# Altium footprint library DAQ_Replacement.PcbLib: 13 footprints
Each footprint in its own frame and in the unit in brackets; x right, y up, seen from the top. Pads: shape width x height; smd on the part's side, far side on the other; paste and mask are expansions set on the pad; w line width, h text height; cw(c..) or ccw(c..) is an arc to the next point about the centre after c.
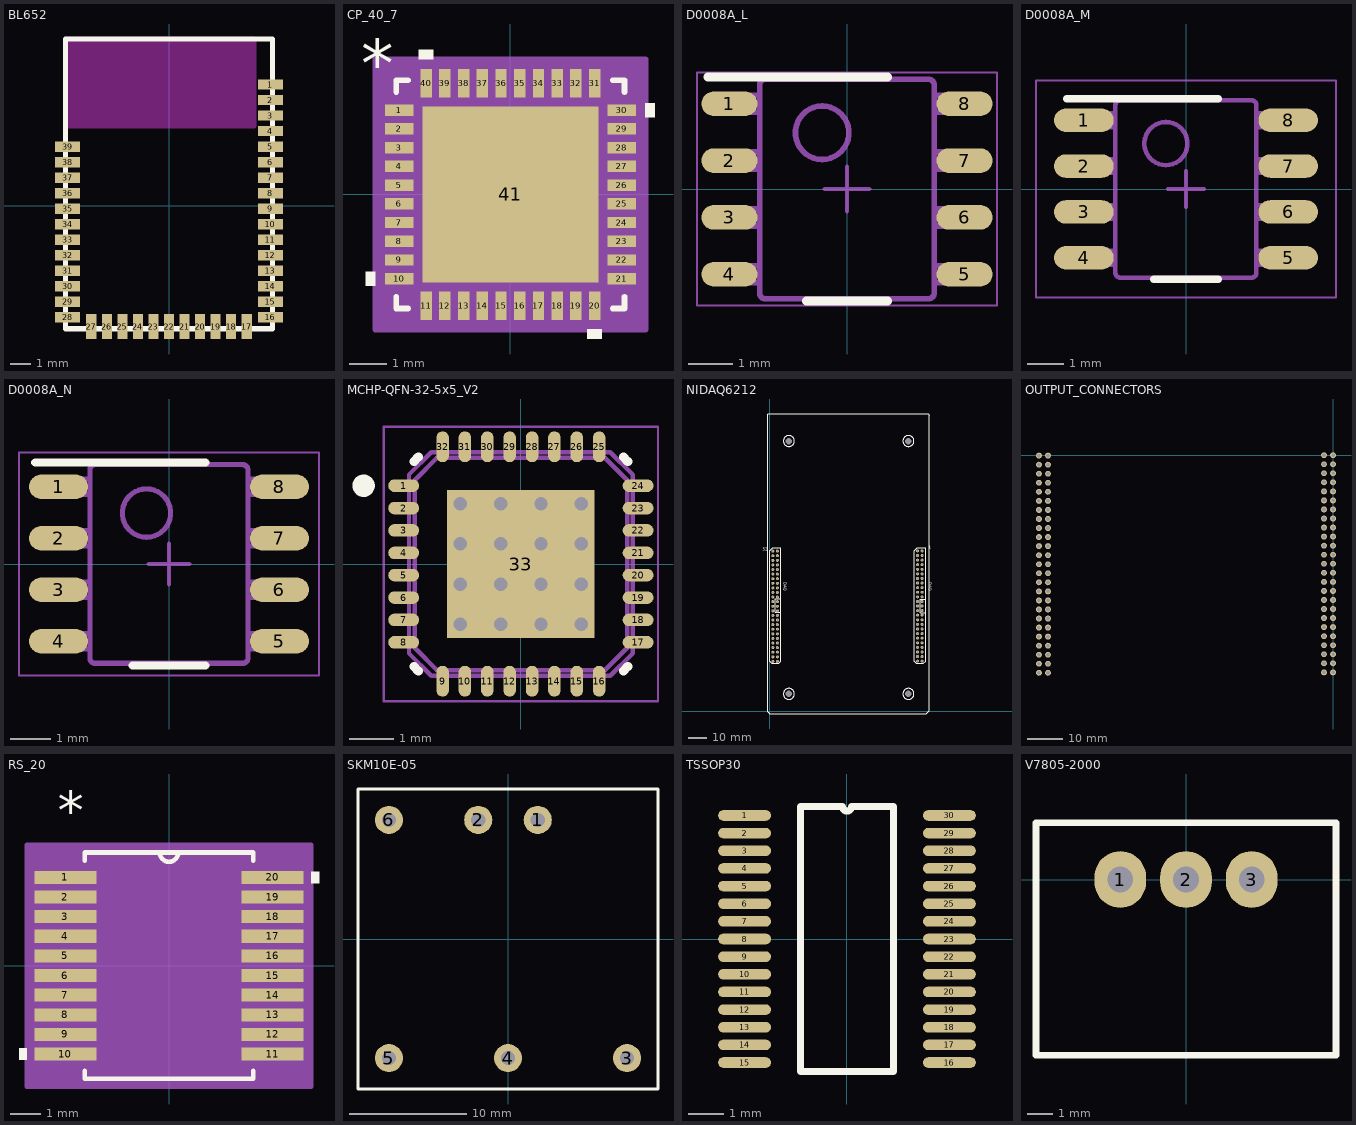
[diagram p0: the footprints below, top view; thin cyan lines are the x and y axes]

## BL652 [mm]
pads (39):
  rect 1.2x0.5 smd: 1(4.9,5.85) 2(4.9,5.1) 3(4.9,4.35) 4(4.9,3.6) 5(4.9,2.85) 6(4.9,2.1) 7(4.9,1.35) 8(4.9,0.6) 9(4.9,-0.15) 10(4.9,-0.9) 11(4.9,-1.65) 12(4.9,-2.4) 13(4.9,-3.15) 14(4.9,-3.9) 15(4.9,-4.65) 16(4.9,-5.4) 28(-4.9,-5.4) 29(-4.9,-4.65) 30(-4.9,-3.9) 31(-4.9,-3.15) 32(-4.9,-2.4) 33(-4.9,-1.65) 34(-4.9,-0.9) 35(-4.9,-0.15) 36(-4.9,0.6) 37(-4.9,1.35) 38(-4.9,2.1) 39(-4.9,2.85)
  rect 0.5x1.2 smd: 17(3.75,-5.85) 18(3,-5.85) 19(2.25,-5.85) 20(1.5,-5.85) 21(0.75,-5.85) 22(0,-5.85) 23(-0.75,-5.85) 24(-1.5,-5.85) 25(-2.25,-5.85) 26(-3,-5.85) 27(-3.75,-5.85)
Top Overlay:
  lines w0.254: -5,-5.95 5,-5.95 5,8.05 -5,8.05 -5,-5.95
Keep-Out Layer:
  pour cut-out: -5,3.85 -5,8.05 4.1,8.05 4.1,3.85
  lines w0.254: -5,3.85 -5,8.05 4.1,8.05 4.1,3.85 -5,3.85
3D body: height 2.1, standoff 0, extent -5,-5.95 5,8.05

## CP_40_7 [mil]
pads (41):
  rect 30x12 smd mask+5: 1(-117,88.58) 2(-117,68.9) 3(-117,49.21) 4(-117,29.53) 5(-117,9.84) 6(-117,-9.84) 7(-117,-29.53) 8(-117,-49.21) 9(-117,-68.9) 10(-117,-88.58) 21(117,-88.58) 22(117,-68.9) 23(117,-49.21) 24(117,-29.53) 25(117,-9.84) 26(117,9.84) 27(117,29.53) 28(117,49.21) 29(117,68.9) 30(117,88.58)
  rect 12x30 smd mask+5: 11(-88.58,-117) 12(-68.9,-117) 13(-49.21,-117) 14(-29.53,-117) 15(-9.84,-117) 16(9.84,-117) 17(29.53,-117) 18(49.21,-117) 19(68.9,-117) 20(88.58,-117) 31(88.58,117) 32(68.9,117) 33(49.21,117) 34(29.53,117) 35(9.84,117) 36(-9.84,117) 37(-29.53,117) 38(-49.21,117) 39(-68.9,117) 40(-88.58,117)
  rect 185x185 smd mask-92: 41(0,0)
Top Overlay:
  region: -142,-81.08 -152,-81.08 -152,-96.08 -142,-96.08
  region: 96.08,-142 81.08,-142 81.08,-152 96.08,-152
  region: 142,96.08 152,96.08 152,81.08 142,81.08
  region: -81.08,142 -96.08,142 -96.08,152 -81.08,152
  lines w6: -120,-107.68 -120,-120 -107.68,-120 ; -120,107.68 -120,120 -107.68,120 ; 107.68,-120 120,-120 120,-107.68 ; 107.68,120 120,120 120,107.68
  text "*" at -157,113.43 h50
Mechanical 13:
  lines w1: -120,70 -70,120 ; -120,-120 120,-120 120,120 -120,120 -120,-120 ; -120,-94.58 -120,-82.58 -120,-94.58 ; -120,-74.9 -120,-62.9 -120,-74.9 ; -120,-55.21 -120,-43.21 -120,-55.21 ; -120,-35.53 -120,-23.53 -120,-35.53 ; -120,-15.84 -120,-3.84 -120,-15.84 ; -120,3.84 -120,15.84 -120,3.84 ; -120,23.53 -120,35.53 -120,23.53 ; -120,43.21 -120,55.21 -120,43.21 ; -120,62.9 -120,74.9 -120,62.9 ; -120,82.58 -120,94.58 -120,82.58 ; -94.58,-120 -82.58,-120 -94.58,-120 ; -94.58,120 -82.58,120 -94.58,120 ; -74.9,-120 -62.9,-120 -74.9,-120 ; -74.9,120 -62.9,120 -74.9,120 ; -55.21,-120 -43.21,-120 -55.21,-120 ; -55.21,120 -43.21,120 -55.21,120 ; -35.53,-120 -23.53,-120 -35.53,-120 ; -35.53,120 -23.53,120 -35.53,120 ; -15.84,-120 -3.84,-120 -15.84,-120 ; -15.84,120 -3.84,120 -15.84,120 ; 3.84,-120 15.84,-120 3.84,-120 ; 3.84,120 15.84,120 3.84,120 ; 23.53,-120 35.53,-120 23.53,-120 ; 23.53,120 35.53,120 23.53,120 ; 43.21,-120 55.21,-120 43.21,-120 ; 43.21,120 55.21,120 43.21,120 ; 62.9,-120 74.9,-120 62.9,-120 ; 62.9,120 74.9,120 62.9,120 ; 82.58,-120 94.58,-120 82.58,-120 ; 82.58,120 94.58,120 82.58,120 ; 120,-94.58 120,-82.58 120,-94.58 ; 120,-74.9 120,-62.9 120,-74.9 ; 120,-55.21 120,-43.21 120,-55.21 ; 120,-35.53 120,-23.53 120,-35.53 ; 120,-15.84 120,-3.84 120,-15.84 ; 120,3.84 120,15.84 120,3.84 ; 120,23.53 120,35.53 120,23.53 ; 120,43.21 120,55.21 120,43.21 ; 120,62.9 120,74.9 120,62.9 ; 120,82.58 120,94.58 120,82.58
  text "*" at -157,113.43 h50
Mechanical 15:
  region: 142,-142 -142,-142 -142,142 142,142
  lines w6: -142,-142 -142,142 142,142 142,-142 -142,-142
3D body: height 10, standoff 0, extent 0,0 10,10
3D body: height 39.37, standoff 0, extent -118.11,-118.11 118.11,118.11

## D0008A_L [mm]
pads (8):
  oval 1.25x0.55 smd paste+0 mask+0.051: 1(-2.625,1.905) 2(-2.625,0.635) 3(-2.625,-0.635) 4(-2.625,-1.905) 5(2.625,-1.905) 6(2.625,-0.635) 7(2.625,0.635) 8(2.625,1.905)
Top Overlay:
  lines w0.2: -3.1,2.5 0.9,2.5 ; -0.9,-2.5 0.9,-2.5
Mechanical 13:
  lines w0.127: -2.375,-2.095 -2.375,-1.715 ; -2.375,-2.095 -2.589,-2.095 -3.002,-2.095 -3.002,-1.715 -2.589,-1.715 -2.375,-1.715 ; -2.375,-2.095 -1.995,-2.095 -1.952,-2.095 -1.952,-1.715 -1.995,-1.715 -2.375,-1.715 ; -2.375,-0.825 -2.375,-0.445 ; -2.375,-0.825 -2.589,-0.825 -3.002,-0.825 -3.002,-0.445 -2.589,-0.445 -2.375,-0.445 ; -2.375,-0.825 -1.995,-0.825 -1.952,-0.825 -1.952,-0.445 -1.995,-0.445 -2.375,-0.445 ; -2.375,0.445 -2.375,0.825 ; -2.375,0.445 -2.589,0.445 -3.002,0.445 -3.002,0.825 -2.589,0.825 -2.375,0.825 ; -2.375,0.445 -1.995,0.445 -1.952,0.445 -1.952,0.825 -1.995,0.825 -2.375,0.825 ; -2.375,1.715 -2.375,2.095 ; -2.375,1.715 -2.589,1.715 -3.002,1.715 -3.002,2.095 -2.589,2.095 -2.375,2.095 ; -2.375,1.715 -1.995,1.715 -1.952,1.715 -1.952,2.095 -1.995,2.095 -2.375,2.095 ; -0.332,-2.45 -0.182,-2.45 ; -0.332,-2.45 -0.182,-2.45 ; -0.332,-2.45 -1.825,-2.45 -1.826,-2.45 cw(c-1.825,-2.323) -1.952,-2.324 -1.952,-2.323 -1.952,2.323 -1.952,2.324 cw(c-1.825,2.323) -1.826,2.45 -1.825,2.45 -0.332,2.45 ; -0.332,2.45 -0.182,2.45 ; -0.332,2.45 -0.182,2.45 ; -0.182,-2.45 0.178,-2.45 ; -0.182,2.45 0.178,2.45 ; 0.178,-2.45 0.328,-2.45 ; 0.178,-2.45 0.328,-2.45 ; 0.178,2.45 0.328,2.45 ; 0.178,2.45 0.328,2.45 ; 0.328,-2.45 1.821,-2.45 1.822,-2.45 ccw(c1.821,-2.323) 1.948,-2.324 1.948,-2.323 1.948,2.323 1.948,2.324 ccw(c1.821,2.323) 1.822,2.45 1.821,2.45 0.328,2.45 ; 2.371,-2.095 2.371,-1.715 ; 2.371,-2.095 1.991,-2.095 1.948,-2.095 1.948,-1.715 1.991,-1.715 2.371,-1.715 ; 2.371,-2.095 2.585,-2.095 2.998,-2.095 2.998,-1.715 2.585,-1.715 2.371,-1.715 ; 2.371,-0.825 2.371,-0.445 ; 2.371,-0.825 1.991,-0.825 1.948,-0.825 1.948,-0.445 1.991,-0.445 2.371,-0.445 ; 2.371,-0.825 2.585,-0.825 2.998,-0.825 2.998,-0.445 2.585,-0.445 2.371,-0.445 ; 2.371,0.445 2.371,0.825 ; 2.371,0.445 1.991,0.445 1.948,0.445 1.948,0.825 1.991,0.825 2.371,0.825 ; 2.371,0.445 2.585,0.445 2.998,0.445 2.998,0.825 2.585,0.825 2.371,0.825 ; 2.371,1.715 2.371,2.095 ; 2.371,1.715 1.991,1.715 1.948,1.715 1.948,2.095 1.991,2.095 2.371,2.095 ; 2.371,1.715 2.585,1.715 2.998,1.715 2.998,2.095 2.585,2.095 2.371,2.095 ; -0.555,0.659 ccw(c-0.555,1.256) -0.555,1.853 ccw(c-0.555,1.256) -0.555,0.659
  text ".Designator" at -1.625,-0.625 h1.27
Mechanical 15:
  lines w0.05: -3.35,-2.6 3.35,-2.6 3.35,2.6 -3.35,2.6 -3.35,-2.6
  lines w0.1: -0.5,0 0.5,0 ; 0,-0.5 0,0.5
3D body: height 1.63, standoff 0, extent -3.011,-2.451 3.012,2.451
3D body: height 0.25, standoff 0, extent 0,0 0.254,0.254

## D0008A_M [mm]
pads (8):
  oval 1.65x0.65 smd paste+0 mask+0.051: 1(-2.825,1.905) 2(-2.825,0.635) 3(-2.825,-0.635) 4(-2.825,-1.905) 5(2.825,-1.905) 6(2.825,-0.635) 7(2.825,0.635) 8(2.825,1.905)
Top Overlay:
  lines w0.2: -3.3,2.5 0.9,2.5 ; -0.9,-2.5 0.9,-2.5
Mechanical 13:
  lines w0.127: -2.375,-2.095 -1.995,-2.095 -1.952,-2.095 -1.952,-1.715 -1.995,-1.715 -2.375,-1.715 ; -2.375,-2.095 -2.589,-2.095 -3.002,-2.095 -3.002,-1.715 -2.589,-1.715 -2.375,-1.715 ; -2.375,-2.095 -2.375,-1.715 ; -2.375,-0.825 -1.995,-0.825 -1.952,-0.825 -1.952,-0.445 -1.995,-0.445 -2.375,-0.445 ; -2.375,-0.825 -2.589,-0.825 -3.002,-0.825 -3.002,-0.445 -2.589,-0.445 -2.375,-0.445 ; -2.375,-0.825 -2.375,-0.445 ; -2.375,0.445 -1.995,0.445 -1.952,0.445 -1.952,0.825 -1.995,0.825 -2.375,0.825 ; -2.375,0.445 -2.589,0.445 -3.002,0.445 -3.002,0.825 -2.589,0.825 -2.375,0.825 ; -2.375,0.445 -2.375,0.825 ; -2.375,1.715 -1.995,1.715 -1.952,1.715 -1.952,2.095 -1.995,2.095 -2.375,2.095 ; -2.375,1.715 -2.589,1.715 -3.002,1.715 -3.002,2.095 -2.589,2.095 -2.375,2.095 ; -2.375,1.715 -2.375,2.095 ; -0.332,-2.45 -1.825,-2.45 -1.826,-2.45 cw(c-1.825,-2.323) -1.952,-2.324 -1.952,-2.323 -1.952,2.323 -1.952,2.324 cw(c-1.825,2.323) -1.826,2.45 -1.825,2.45 -0.332,2.45 ; -0.332,-2.45 -0.182,-2.45 ; -0.332,-2.45 -0.182,-2.45 ; -0.332,2.45 -0.182,2.45 ; -0.332,2.45 -0.182,2.45 ; -0.182,-2.45 0.178,-2.45 ; -0.182,2.45 0.178,2.45 ; 0.178,-2.45 0.328,-2.45 ; 0.178,-2.45 0.328,-2.45 ; 0.178,2.45 0.328,2.45 ; 0.178,2.45 0.328,2.45 ; 0.328,-2.45 1.821,-2.45 1.822,-2.45 ccw(c1.821,-2.323) 1.948,-2.324 1.948,-2.323 1.948,2.323 1.948,2.324 ccw(c1.821,2.323) 1.822,2.45 1.821,2.45 0.328,2.45 ; 2.371,-2.095 2.585,-2.095 2.998,-2.095 2.998,-1.715 2.585,-1.715 2.371,-1.715 ; 2.371,-2.095 1.991,-2.095 1.948,-2.095 1.948,-1.715 1.991,-1.715 2.371,-1.715 ; 2.371,-2.095 2.371,-1.715 ; 2.371,-0.825 2.585,-0.825 2.998,-0.825 2.998,-0.445 2.585,-0.445 2.371,-0.445 ; 2.371,-0.825 1.991,-0.825 1.948,-0.825 1.948,-0.445 1.991,-0.445 2.371,-0.445 ; 2.371,-0.825 2.371,-0.445 ; 2.371,0.445 2.585,0.445 2.998,0.445 2.998,0.825 2.585,0.825 2.371,0.825 ; 2.371,0.445 1.991,0.445 1.948,0.445 1.948,0.825 1.991,0.825 2.371,0.825 ; 2.371,0.445 2.371,0.825 ; 2.371,1.715 2.585,1.715 2.998,1.715 2.998,2.095 2.585,2.095 2.371,2.095 ; 2.371,1.715 1.991,1.715 1.948,1.715 1.948,2.095 1.991,2.095 2.371,2.095 ; 2.371,1.715 2.371,2.095 ; -0.555,0.659 cw(c-0.555,1.256) -0.555,1.853 cw(c-0.555,1.256) -0.555,0.659
  text ".Designator" at -1.625,-0.625 h1.27
Mechanical 15:
  lines w0.05: -4.15,-3 4.15,-3 4.15,3 -4.15,3 -4.15,-3
  lines w0.1: -0.5,0 0.5,0 ; 0,-0.5 0,0.5
3D body: height 1.63, standoff 0, extent -3.011,-2.451 3.012,2.451
3D body: height 0.25, standoff 0, extent 0,0 0.254,0.254

## D0008A_N [mm]
pads (8):
  oval 1.45x0.6 smd paste+0 mask+0.051: 1(-2.725,1.905) 2(-2.725,0.635) 3(-2.725,-0.635) 4(-2.725,-1.905) 5(2.725,-1.905) 6(2.725,-0.635) 7(2.725,0.635) 8(2.725,1.905)
Top Overlay:
  lines w0.2: -3.3,2.5 0.9,2.5 ; -0.9,-2.5 0.9,-2.5
Mechanical 13:
  lines w0.127: -2.375,-2.095 -1.995,-2.095 -1.952,-2.095 -1.952,-1.715 -1.995,-1.715 -2.375,-1.715 ; -2.375,-2.095 -2.589,-2.095 -3.002,-2.095 -3.002,-1.715 -2.589,-1.715 -2.375,-1.715 ; -2.375,-2.095 -2.375,-1.715 ; -2.375,-0.825 -1.995,-0.825 -1.952,-0.825 -1.952,-0.445 -1.995,-0.445 -2.375,-0.445 ; -2.375,-0.825 -2.589,-0.825 -3.002,-0.825 -3.002,-0.445 -2.589,-0.445 -2.375,-0.445 ; -2.375,-0.825 -2.375,-0.445 ; -2.375,0.445 -1.995,0.445 -1.952,0.445 -1.952,0.825 -1.995,0.825 -2.375,0.825 ; -2.375,0.445 -2.589,0.445 -3.002,0.445 -3.002,0.825 -2.589,0.825 -2.375,0.825 ; -2.375,0.445 -2.375,0.825 ; -2.375,1.715 -1.995,1.715 -1.952,1.715 -1.952,2.095 -1.995,2.095 -2.375,2.095 ; -2.375,1.715 -2.589,1.715 -3.002,1.715 -3.002,2.095 -2.589,2.095 -2.375,2.095 ; -2.375,1.715 -2.375,2.095 ; -0.332,-2.45 -1.825,-2.45 -1.826,-2.45 cw(c-1.825,-2.323) -1.952,-2.324 -1.952,-2.323 -1.952,2.323 -1.952,2.324 cw(c-1.825,2.323) -1.826,2.45 -1.825,2.45 -0.332,2.45 ; -0.332,-2.45 -0.182,-2.45 ; -0.332,-2.45 -0.182,-2.45 ; -0.332,2.45 -0.182,2.45 ; -0.332,2.45 -0.182,2.45 ; -0.182,-2.45 0.178,-2.45 ; -0.182,2.45 0.178,2.45 ; 0.178,-2.45 0.328,-2.45 ; 0.178,-2.45 0.328,-2.45 ; 0.178,2.45 0.328,2.45 ; 0.178,2.45 0.328,2.45 ; 0.328,-2.45 1.821,-2.45 1.822,-2.45 ccw(c1.821,-2.323) 1.948,-2.324 1.948,-2.323 1.948,2.323 1.948,2.324 ccw(c1.821,2.323) 1.822,2.45 1.821,2.45 0.328,2.45 ; 2.371,-2.095 2.585,-2.095 2.998,-2.095 2.998,-1.715 2.585,-1.715 2.371,-1.715 ; 2.371,-2.095 1.991,-2.095 1.948,-2.095 1.948,-1.715 1.991,-1.715 2.371,-1.715 ; 2.371,-2.095 2.371,-1.715 ; 2.371,-0.825 2.585,-0.825 2.998,-0.825 2.998,-0.445 2.585,-0.445 2.371,-0.445 ; 2.371,-0.825 1.991,-0.825 1.948,-0.825 1.948,-0.445 1.991,-0.445 2.371,-0.445 ; 2.371,-0.825 2.371,-0.445 ; 2.371,0.445 2.585,0.445 2.998,0.445 2.998,0.825 2.585,0.825 2.371,0.825 ; 2.371,0.445 1.991,0.445 1.948,0.445 1.948,0.825 1.991,0.825 2.371,0.825 ; 2.371,0.445 2.371,0.825 ; 2.371,1.715 2.585,1.715 2.998,1.715 2.998,2.095 2.585,2.095 2.371,2.095 ; 2.371,1.715 1.991,1.715 1.948,1.715 1.948,2.095 1.991,2.095 2.371,2.095 ; 2.371,1.715 2.371,2.095 ; -0.555,0.659 cw(c-0.555,1.256) -0.555,1.853 cw(c-0.555,1.256) -0.555,0.659
  text ".Designator" at -1.625,-0.625 h1.27
Mechanical 15:
  lines w0.05: -3.7,-2.75 3.7,-2.75 3.7,2.75 -3.7,2.75 -3.7,-2.75
  lines w0.1: -0.5,0 0.5,0 ; 0,-0.5 0,0.5
3D body: height 1.63, standoff 0, extent -3.011,-2.451 3.011,2.451
3D body: height 0.25, standoff 0, extent 0,0 0.254,0.254

## MCHP-QFN-32-5x5_V2 [mm] "QFN, 32-Leads, Body 5x5mm, Pitch 0.5mm, Thermal Pad 3.3x3.3mm"
height 1
pads (33):
  oval 0.69x0.28 smd paste-1 mask+0.07: 1(-2.62,1.75) 2(-2.62,1.25) 3(-2.62,0.75) 4(-2.62,0.25) 5(-2.62,-0.25) 6(-2.62,-0.75) 7(-2.62,-1.25) 8(-2.62,-1.75) 17(2.62,-1.75) 18(2.62,-1.25) 19(2.62,-0.75) 20(2.62,-0.25) 21(2.62,0.25) 22(2.62,0.75) 23(2.62,1.25) 24(2.62,1.75)
  oval 0.28x0.69 smd paste-1 mask+0.07: 9(-1.75,-2.62) 10(-1.25,-2.62) 11(-0.75,-2.62) 12(-0.25,-2.62) 13(0.25,-2.62) 14(0.75,-2.62) 15(1.25,-2.62) 16(1.75,-2.62) 25(1.75,2.62) 26(1.25,2.62) 27(0.75,2.62) 28(0.25,2.62) 29(-0.25,2.62) 30(-0.75,2.62) 31(-1.25,2.62) 32(-1.75,2.62)
  rect 3.3x3.3 smd paste-2 mask+0.07: 33(0,0)
via -1.35,1.35 diameter 0.5 hole 0.3
via -0.45,1.35 diameter 0.5 hole 0.3
via 0.45,1.35 diameter 0.5 hole 0.3
via 1.35,1.35 diameter 0.5 hole 0.3
via -1.35,0.45 diameter 0.5 hole 0.3
via -0.45,0.45 diameter 0.5 hole 0.3
via 0.45,0.45 diameter 0.5 hole 0.3
via 1.35,0.45 diameter 0.5 hole 0.3
via -1.35,-0.45 diameter 0.5 hole 0.3
via -0.45,-0.45 diameter 0.5 hole 0.3
via 0.45,-0.45 diameter 0.5 hole 0.3
via 1.35,-0.45 diameter 0.5 hole 0.3
via -1.35,-1.35 diameter 0.5 hole 0.3
via -0.45,-1.35 diameter 0.5 hole 0.3
via 0.45,-1.35 diameter 0.5 hole 0.3
via 1.35,-1.35 diameter 0.5 hole 0.3
Top Overlay:
  circle w0.25: c-3.515,1.75 r0.125
  lines w0.2: -2.393,-2.29 -2.29,-2.393 ; -2.393,2.29 -2.29,2.393 ; 2.29,-2.393 2.393,-2.29 ; 2.29,2.393 2.393,2.29
Top Paste:
  drawing of 41 lines, arcs and shapes, not listed
Mechanical 13:
  lines w0.1: -2.5,-2 -2,-2.5 2,-2.5 2.5,-2 2.5,2 2,2.5 -2,2.5 -2.5,2 -2.5,-2 ; -2.375,-1.875 -2.375,1.875 -1.875,2.375 1.875,2.375 2.375,1.875 2.375,-1.875 1.875,-2.375 -1.875,-2.375 -2.375,-1.875
Mechanical 15:
  lines w0.05: -3.065,-3.065 -3.065,3.065 3.065,3.065 3.065,-3.065 -3.065,-3.065
  lines w0.1: -0.5,0 0.5,0 ; 0,-0.5 0,0.5
3D body: height 0.1, standoff 0, extent -2.5,-2.5 2.5,2.5
3D body: height 1, standoff 0.1, extent -2.375,-2.375 2.375,2.375

## NIDAQ6212 [mil]
pads (104):
  round 64.96 hole 40: 1(3320,3485) 2(3220,3485) 3(3320,3385) 4(3220,3385) 5(3320,3285) 6(3220,3285) 7(3320,3185) 8(3220,3185) 9(3320,3085) 10(3220,3085) 11(3320,2985) 12(3220,2985) 13(3320,2885) 14(3220,2885) 15(3320,2785) 16(3220,2785) 17(3320,2685) 18(3220,2685) 19(3320,2585) 20(3220,2585) 21(3320,2485) 22(3220,2485) 23(3320,2385) 24(3220,2385) 25(3320,2285) 26(3220,2285) 27(3320,2185) 28(3220,2185) 29(3320,2085) 30(3220,2085) 31(3320,1985) 32(3220,1985) 33(3320,1885) 34(3220,1885) 35(3320,1785) 36(3220,1785) 37(3320,1685) 38(3220,1685) 39(3320,1585) 40(3220,1585) 41(3320,1485) 42(3220,1485) 43(3320,1385) 44(3220,1385) 45(3320,1285) 46(3220,1285) 47(3320,1185) 48(3220,1185) 49(3320,1085) 50(3220,1085) 51(170,3480) 52(70,3480) 53(170,3380) 54(70,3380) 55(170,3280) 56(70,3280) 57(170,3180) 58(70,3180) 59(170,3080) 60(70,3080) 61(170,2980) 62(70,2980) 63(170,2880) 64(70,2880) 65(170,2780) 66(70,2780) 67(170,2680) 68(70,2680) 69(170,2580) 70(70,2580) 71(170,2480) 72(70,2480) 73(170,2380) 74(70,2380) 75(170,2280) 76(70,2280) 77(170,2180) 78(70,2180) 79(170,2080) 80(70,2080) 81(170,1980) 82(70,1980) 83(170,1880) 84(70,1880) 85(170,1780) 86(70,1780) 87(170,1680) 88(70,1680) 89(170,1580) 90(70,1580) 91(170,1480) 92(70,1480) 93(170,1380) 94(70,1380) 95(170,1280) 96(70,1280) 97(170,1180) 98(70,1180) 99(170,1080) 100(70,1080)
  round 64.96 hole 142: ""(420,373) ""(420,5877) ""(3022,373) ""(3022,5877)
Top Overlay:
  circle w10: c3022,373 r120
  circle w10: c420,373 r120
  circle w10: c420,5877 r120
  circle w10: c3022,5877 r120
  lines w10: 240,2145 120,2145 120,2440 148.75,2440 206.25,2440 245,2440 ; 3390,2430 3361.25,2430 3303.75,2430 3275,2430 3275,2135 3395,2135 ; -40,-20 5,-65 3405,-65 3480,10 3480,6435 3450,6465 -30,6465 -40,6455 -40,-20 ; 0,1080 45,1035 195,1035 245,1085 245,3510 245,3550 205,3550 65,3550 0,3485 0,1080 ; 3150,1080 3150,3485 3215,3550 3355,3550 3395,3550 3395,3510 3395,1085 3345,1035 3195,1035 3150,1080
  text "DAQ" at 310,2805 h60
  text "52" at -150,3485 h60
  text "1" at 3460,3530 h60
  text "DAQ" at 3460,2805 h60
3D body: height 425.2, standoff -110.24, extent 0,947.05 277.56,3625
3D body: height 425.2, standoff -110.24, extent 3150,947.05 3427.56,3625
3D body: height 642.11, standoff 35.11, extent -57,20 3385,6451

## OUTPUT_CONNECTORS [mm] "NIDAQ"
pads (100):
  round 1.65 hole 1.016: 1(0,0) 2(-2.54,0) 3(0,-2.54) 4(-2.54,-2.54) 5(0,-5.08) 6(-2.54,-5.08) 7(0,-7.62) 8(-2.54,-7.62) 9(0,-10.16) 10(-2.54,-10.16) 11(0,-12.7) 12(-2.54,-12.7) 13(0,-15.24) 14(-2.54,-15.24) 15(0,-17.78) 16(-2.54,-17.78) 17(0,-20.32) 18(-2.54,-20.32) 19(0,-22.86) 20(-2.54,-22.86) 21(0,-25.4) 22(-2.54,-25.4) 23(0,-27.94) 24(-2.54,-27.94) 25(0,-30.48) 26(-2.54,-30.48) 27(0,-33.02) 28(-2.54,-33.02) 29(0,-35.56) 30(-2.54,-35.56) 31(0,-38.1) 32(-2.54,-38.1) 33(0,-40.64) 34(-2.54,-40.64) 35(0,-43.18) 36(-2.54,-43.18) 37(0,-45.72) 38(-2.54,-45.72) 39(0,-48.26) 40(-2.54,-48.26) 41(0,-50.8) 42(-2.54,-50.8) 43(0,-53.34) 44(-2.54,-53.34) 45(0,-55.88) 46(-2.54,-55.88) 47(0,-58.42) 48(-2.54,-58.42) 49(0,-60.96) 50(-2.54,-60.96) 51(-80.01,-0.127) 52(-82.55,-0.127) 53(-80.01,-2.667) 54(-82.55,-2.667) 55(-80.01,-5.207) 56(-82.55,-5.207) 57(-80.01,-7.747) 58(-82.55,-7.747) 59(-80.01,-10.287) 60(-82.55,-10.287) 61(-80.01,-12.827) 62(-82.55,-12.827) 63(-80.01,-15.367) 64(-82.55,-15.367) 65(-80.01,-17.907) 66(-82.55,-17.907) 67(-80.01,-20.447) 68(-82.55,-20.447) 69(-80.01,-22.987) 70(-82.55,-22.987) 71(-80.01,-25.527) 72(-82.55,-25.527) 73(-80.01,-28.067) 74(-82.55,-28.067) 75(-80.01,-30.607) 76(-82.55,-30.607) 77(-80.01,-33.147) 78(-82.55,-33.147) 79(-80.01,-35.687) 80(-82.55,-35.687) 81(-80.01,-38.227) 82(-82.55,-38.227) 83(-80.01,-40.767) 84(-82.55,-40.767) 85(-80.01,-43.307) 86(-82.55,-43.307) 87(-80.01,-45.847) 88(-82.55,-45.847) 89(-80.01,-48.387) 90(-82.55,-48.387) 91(-80.01,-50.927) 92(-82.55,-50.927) 93(-80.01,-53.467) 94(-82.55,-53.467) 95(-80.01,-56.007) 96(-82.55,-56.007) 97(-80.01,-58.547) 98(-82.55,-58.547) 99(-80.01,-61.087) 100(-82.55,-61.087)

## PCBComponent_1 [mm]

## RS_20 [mil]
pads (20):
  rect 81x17 smd: 1(-135,115.16) 2(-135,89.57) 3(-135,63.98) 4(-135,38.39) 5(-135,12.8) 6(-135,-12.8) 7(-135,-38.39) 8(-135,-63.98) 9(-135,-89.57) 10(-135,-115.16) 11(135,-115.16) 12(135,-89.57) 13(135,-63.98) 14(135,-38.39) 15(135,-12.8) 16(135,12.8) 17(135,38.39) 18(135,63.98) 19(135,89.57) 20(135,115.16)
Top Overlay:
  region: -185.5,-107.66 -195.5,-107.66 -195.5,-122.66 -185.5,-122.66
  region: 185.5,122.66 195.5,122.66 195.5,107.66 185.5,107.66
  lines w6: -110,-136.66 -110,-147.5 110,-147.5 110,-136.66 ; -110,136.66 -110,147.5 110,147.5 110,136.66 ; -12,147.5 ccw(c0,147.5) 12,147.5
  text "*" at -145,177.16 h50
Mechanical 13:
  lines w0: -12,147.5 ccw(c0,147.5) 12,147.5
  lines w1: -161.5,-122.66 -161.5,-107.66 -110,-107.66 -110,-122.66 -161.5,-122.66 ; -161.5,-97.07 -161.5,-82.07 -110,-82.07 -110,-97.07 -161.5,-97.07 ; -161.5,-71.48 -161.5,-56.48 -110,-56.48 -110,-71.48 -161.5,-71.48 ; -161.5,-45.89 -161.5,-30.89 -110,-30.89 -110,-45.89 -161.5,-45.89 ; -161.5,-20.3 -161.5,-5.3 -110,-5.3 -110,-20.3 -161.5,-20.3 ; -161.5,5.3 -161.5,20.3 -110,20.3 -110,5.3 -161.5,5.3 ; -161.5,30.89 -161.5,45.89 -110,45.89 -110,30.89 -161.5,30.89 ; -161.5,56.48 -161.5,71.48 -110,71.48 -110,56.48 -161.5,56.48 ; -161.5,82.07 -161.5,97.07 -110,97.07 -110,82.07 -161.5,82.07 ; -161.5,107.66 -161.5,122.66 -110,122.66 -110,107.66 -161.5,107.66 ; -110,-147.5 110,-147.5 110,147.5 -110,147.5 -110,-147.5 ; 110,-122.66 110,-107.66 161.5,-107.66 161.5,-122.66 110,-122.66 ; 110,-97.07 110,-82.07 161.5,-82.07 161.5,-97.07 110,-97.07 ; 110,-71.48 110,-56.48 161.5,-56.48 161.5,-71.48 110,-71.48 ; 110,-45.89 110,-30.89 161.5,-30.89 161.5,-45.89 110,-45.89 ; 110,-20.3 110,-5.3 161.5,-5.3 161.5,-20.3 110,-20.3 ; 110,5.3 110,20.3 161.5,20.3 161.5,5.3 110,5.3 ; 110,30.89 110,45.89 161.5,45.89 161.5,30.89 110,30.89 ; 110,56.48 110,71.48 161.5,71.48 161.5,56.48 110,56.48 ; 110,82.07 110,97.07 161.5,97.07 161.5,82.07 110,82.07 ; 110,107.66 110,122.66 161.5,122.66 161.5,107.66 110,107.66
  text "*" at -145,177.16 h50
Mechanical 15:
  region: 185.5,-157.5 -185.5,-157.5 -185.5,157.5 185.5,157.5
  lines w6: -185.5,-157.5 -185.5,157.5 185.5,157.5 185.5,-157.5 -185.5,-157.5
3D body: height 10, standoff 0, extent 0,0 10,10
3D body: height 79.09, standoff 0, extent -161.49,-147.48 161.5,147.48

## SKM10E-05 [mm]
pads (6):
  round 2.4 hole 1.2: 1(2.54,10.16) 2(-2.54,10.16) 3(10.16,-10.16) 4(0,-10.16) 5(-10.16,-10.16) 6(-10.16,10.16)
Top Overlay:
  lines w0.254: -12.8,-12.8 12.8,-12.8 12.8,12.8 -12.8,12.8 -12.8,-12.8
3D body: height 10.2, standoff 0.1, extent -12.7,-12.7 12.7,12.7
3D body: height 0, standoff -5.6, extent 2.044,9.661 3.04,10.659
3D body: height 0, standoff -5.6, extent -3.036,9.661 -2.04,10.659
3D body: height 0, standoff -5.6, extent -10.656,9.661 -9.66,10.659
3D body: height 0, standoff -5.6, extent -10.656,-10.659 -9.66,-9.661
3D body: height 0, standoff -5.6, extent -0.496,-10.659 0.5,-9.661
3D body: height 0, standoff -5.6, extent 9.664,-10.659 10.66,-9.661

## TSSOP30 [mm]
pads (30):
  oval 1.5x0.3 smd: 1(-2.9,3.5) 2(-2.9,3) 3(-2.9,2.5) 4(-2.9,2) 5(-2.9,1.5) 6(-2.9,1) 7(-2.9,0.5) 8(-2.9,0) 9(-2.9,-0.5) 10(-2.9,-1) 11(-2.9,-1.5) 12(-2.9,-2) 13(-2.9,-2.5) 14(-2.9,-3) 15(-2.9,-3.5) 16(2.9,-3.5) 17(2.9,-3) 18(2.9,-2.5) 19(2.9,-2) 20(2.9,-1.5) 21(2.9,-1) 22(2.9,-0.5) 23(2.9,0) 24(2.9,0.5) 25(2.9,1) 26(2.9,1.5) 27(2.9,2) 28(2.9,2.5) 29(2.9,3) 30(2.9,3.5)
Top Overlay:
  lines w0.2: -1.315,-3.75 -1.315,3.75 -0.125,3.75 ccw(c0,3.75) 0.125,3.75 1.315,3.75 1.315,-3.75 -1.315,-3.75
3D body: height 1.2, standoff 0.1, extent -1.3,-3.8 1.3,3.7

## V7805-2000 [mm]
pads (3):
  oval 2x2.2 hole 1: 1(-2.54,0) 2(0,0) 3(2.54,0)
Top Overlay:
  lines w0.254: -5.8,-6.8 5.8,-6.8 5.8,2.2 -5.8,2.2 -5.8,-6.8
3D body: height 17.5, standoff 0.25, extent -5.8,-6.8 5.8,2.2